# Altium schematic symbol library CapSMT.Schlib: 1 symbol
Pins are listed as number, name and electrical type; pins without a type are passive.

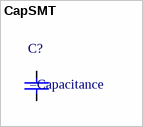
[diagram p0: symbol CapSMT]

## CapSMT
designator C?
Capacitor
pins: 1, 2